# Altium integrated library MSTBA_2_5__3-G-5_08_1757255.IntLib: 1 symbol
Pins are listed as number, name and electrical type; pins without a type are passive.

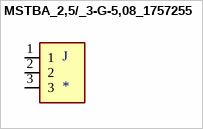
[diagram p0: symbol MSTBA_2,5/_3-G-5,08_1757255]

## MSTBA_2,5/_3-G-5,08_1757255
designator J
3 Position Terminal Block Header, Male Pins, Shrouded _4 Side_ 0.200 _5.08mm_ 90Â°, Right Angle Through Hole; MP: MSTBA 2,5/ 3-G-5,08 1757255; MF: Phoenix Contact; Value: *; Package: None; SnapEDA_Link: https://www.snapeda.com/parts/MSTBA%202%2C5/%203-G-5%2C08%201757255/Phoenix%20Contact/view-part/1675378/?ref=snap; Price: None; Availability: Unavailable
footprint PHOENIX_MSTBA_2,5_3-G-5,08_1757255
pins: 1, 2, 3